# EAGLE library part AD633 (library synthdiy)
AD633 Multiplier (X*Y)/(10*Z)
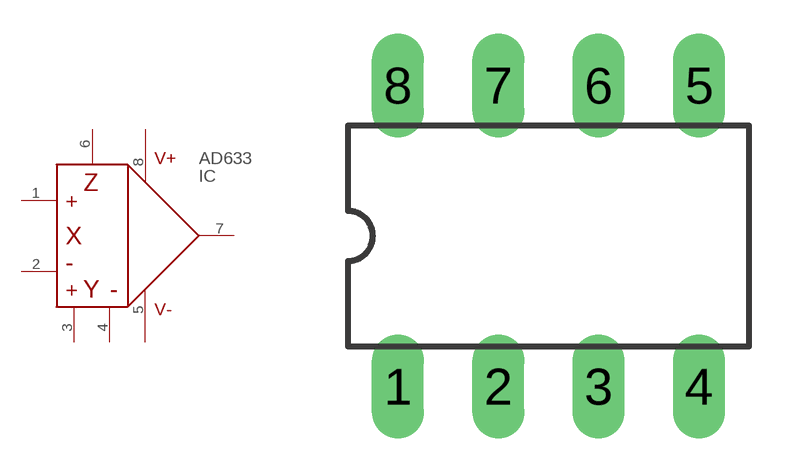
[diagram p0: symbol with the pads of DIL08; footprint DIL08]

Designator prefix IC

## AD633N  [DIL08]
1  P$1
2  P$2
3  P$3
4  P$4
5  P$8  pwr
6  P$5
7  P$6
8  P$7  pwr

## Footprint DIL08 (pad centres in mm)
Dual In Line 8
drill 0.813 long: 1 -3.81,-3.81; 2 -1.27,-3.81; 3 1.27,-3.81; 4 3.81,-3.81; 5 3.81,3.81; 6 1.27,3.81; 7 -1.27,3.81; 8 -3.81,3.81